# EAGLE library part FLIR_LEPTON (library FLIR)
FLIR Lepton camera, using molex socket 105028-2001. Lepton Datasheet <https://cdn.sparkfun.com/datasheets/Sensors/Infrared/FLIR_Lepton_Data_Brief.pdf> Socket Datasheet <http://www.molex.com/webdocs/datasheets/pdf/en-us/1050282001_OTHER_SOCKETS.pdf>
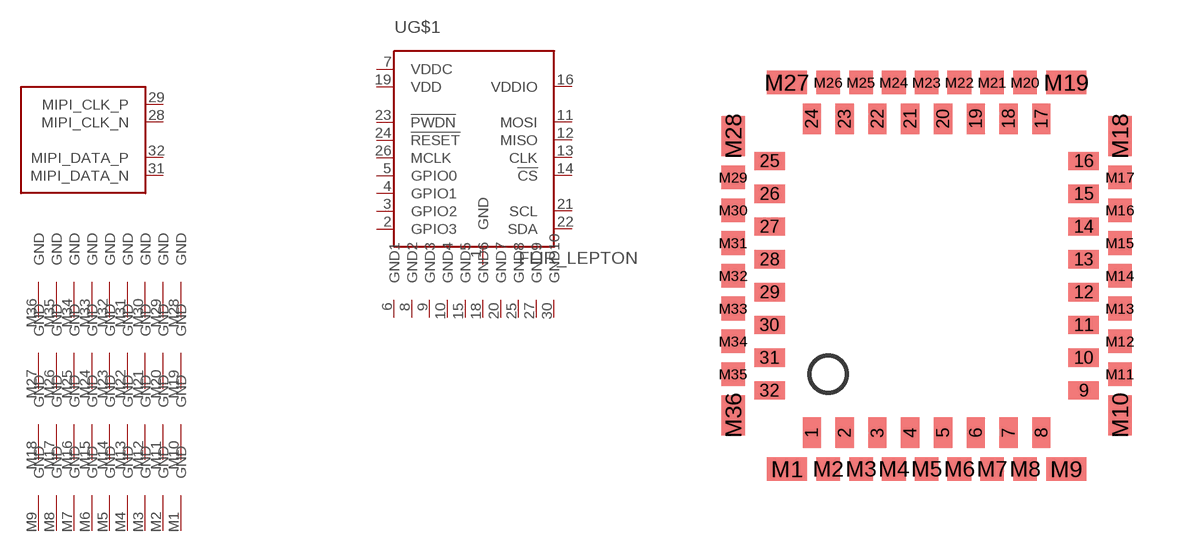
[diagram p0: symbol with the pads of 105028-1001; footprint 105028-1001]

Designator prefix -; gates G$1=FLIR_LEPTON G$3=LEPTON_MIPI G$2=CASE_GND G$4=CASE_GND G$5=CASE_GND G$6=CASE_GND G$7=CASE_GND G$8=CASE_GND G$9=CASE_GND G$10=CASE_GND G$11=CASE_GND G$12=CASE_GND G$13=CASE_GND G$14=CASE_GND G$15=CASE_GND G$16=CASE_GND G$17=CASE_GND G$18=CASE_GND G$19=CASE_GND G$20=CASE_GND G$21=CASE_GND G$22=CASE_GND G$23=CASE_GND G$24=CASE_GND G$25=CASE_GND G$26=CASE_GND G$27=CASE_GND G$28=CASE_GND G$29=CASE_GND G$30=CASE_GND G$31=CASE_GND G$32=CASE_GND G$33=CASE_GND G$34=CASE_GND G$35=CASE_GND G$36=CASE_GND G$37=CASE_GND G$38=CASE_GND

## FLIR_LEPTON_TOP_SOCKET  [105028-1001]
1  G$1:GND  pwr
2  G$1:GPIO3
3  G$1:GPIO2
4  G$1:GPIO1
5  G$1:GPIO0
6  G$1:GND1  pwr
7  G$1:VDDC  pwr
8  G$1:GND2  pwr
9  G$1:GND3  pwr
10  G$1:GND4  pwr
11  G$1:MOSI  in
12  G$1:MISO  out
13  G$1:CLK  in
14  G$1:!CS  in
15  G$1:GND5  pwr
16  G$1:VDDIO  pwr
18  G$1:GND6  pwr
19  G$1:VDD  pwr
20  G$1:GND7  pwr
21  G$1:SCL  in
22  G$1:SDA
23  G$1:!PWDN  in
24  G$1:!RESET  in
25  G$1:GND8  pwr
26  G$1:MCLK  in
27  G$1:GND9  pwr
28  G$3:MIPI_CLK_N
29  G$3:MIPI_CLK_P
30  G$1:GND10  pwr
31  G$3:MIPI_DATA_N
32  G$3:MIPI_DATA_P
M1  G$38:GND  pwr
M2  G$37:GND  pwr
M3  G$36:GND  pwr
M4  G$35:GND  pwr
M5  G$34:GND  pwr
M6  G$33:GND  pwr
M7  G$32:GND  pwr
M8  G$31:GND  pwr
M9  G$30:GND  pwr
M10  G$29:GND  pwr
M11  G$28:GND  pwr
M12  G$27:GND  pwr
M13  G$26:GND  pwr
M14  G$25:GND  pwr
M15  G$24:GND  pwr
M16  G$23:GND  pwr
M17  G$22:GND  pwr
M18  G$21:GND  pwr
M19  G$20:GND  pwr
M20  G$19:GND  pwr
M21  G$18:GND  pwr
M22  G$17:GND  pwr
M23  G$16:GND  pwr
M24  G$15:GND  pwr
M25  G$14:GND  pwr
M26  G$13:GND  pwr
M27  G$12:GND  pwr
M28  G$11:GND  pwr
M29  G$10:GND  pwr
M30  G$9:GND  pwr
M31  G$8:GND  pwr
M32  G$7:GND  pwr
M33  G$6:GND  pwr
M34  G$5:GND  pwr
M35  G$4:GND  pwr
M36  G$2:GND  pwr

## Footprint 105028-1001 (pad centres in mm)
Top mounting camera socket Molex 105028-1001
smd 0.5 x 0.84: 1 -3.15,-4.31; 2 -2.25,-4.31; 3 -1.35,-4.31; 4 -0.45,-4.31; 5 0.45,-4.31; 6 1.35,-4.31; 7 2.25,-4.31; 8 3.15,-4.31; 17 3.15,4.31; 18 2.25,4.31; 19 1.35,4.31; 20 0.45,4.31; 21 -0.45,4.31; 22 -1.35,4.31; 23 -2.25,4.31; 24 -3.15,4.31
smd 0.84 x 0.5: 9 4.31,-3.15; 10 4.31,-2.25; 11 4.31,-1.35; 12 4.31,-0.45; 13 4.31,0.45; 14 4.31,1.35; 15 4.31,2.25; 16 4.31,3.15; 25 -4.31,3.15; 26 -4.31,2.25; 27 -4.31,1.35; 28 -4.31,0.45; 29 -4.31,-0.45; 30 -4.31,-1.35; 31 -4.31,-2.25; 32 -4.31,-3.15
smd 1.1 x 0.65: M1 -3.83,-5.305; M9 3.83,-5.305; M19 3.83,5.305; M27 -3.83,5.305
smd 0.65 x 0.65: M2 -2.7,-5.305; M3 -1.8,-5.305; M4 -0.9,-5.305; M5 0,-5.305; M6 0.9,-5.305; M7 1.8,-5.305; M8 2.7,-5.305; M11 5.305,-2.7; M12 5.305,-1.8; M13 5.305,-0.9; M14 5.305,0; M15 5.305,0.9; M16 5.305,1.8; M17 5.305,2.7; M20 2.7,5.305; M21 1.8,5.305; M22 0.9,5.305; M23 0,5.305; M24 -0.9,5.305; M25 -1.8,5.305; M26 -2.7,5.305; M29 -5.305,2.7; M30 -5.305,1.8; M31 -5.305,0.9; M32 -5.305,0; M33 -5.305,-0.9; M34 -5.305,-1.8; M35 -5.305,-2.7
smd 0.65 x 1.1: M10 5.305,-3.83; M18 5.305,3.83; M28 -5.305,3.83; M36 -5.305,-3.83